# EAGLE library part RHA2132 (library harrison)
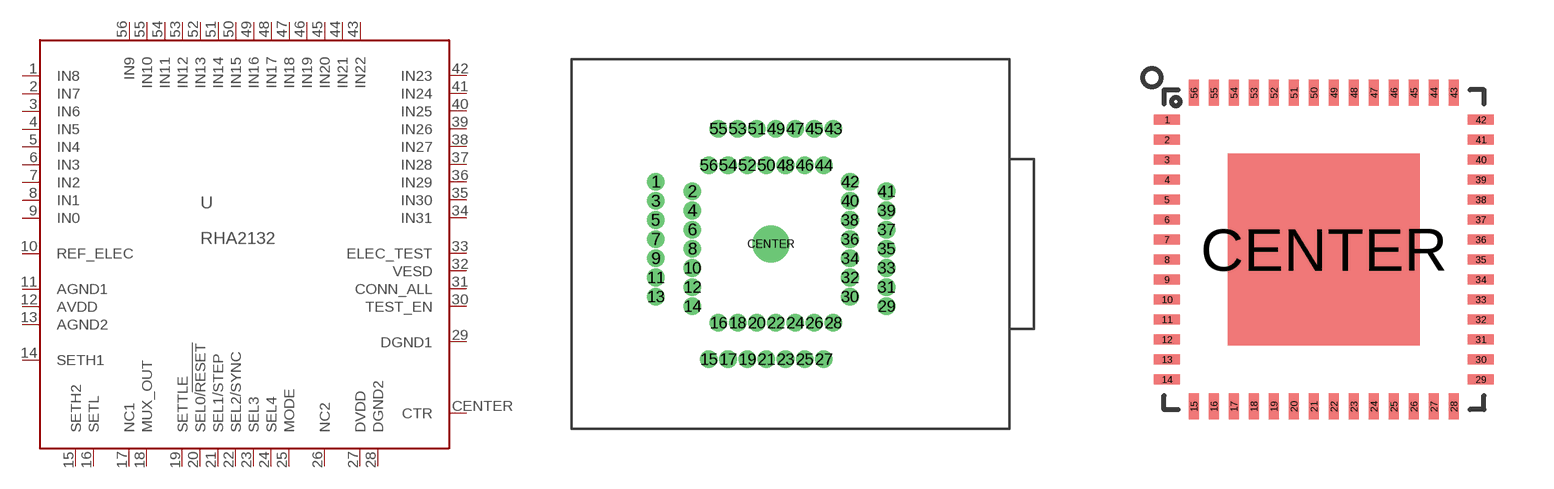
[diagram p55: symbol with the pads of ZIF_QFN56_8_X_8; footprints ZIF_QFN56_8_X_8, QFN56_8_X_8]

Designator prefix U

## RHA2132ZIF  [ZIF_QFN56_8_X_8]
1  IN8  in
2  IN7  in
3  IN6  in
4  IN5  in
5  IN4  in
6  IN3  in
7  IN2  in
8  IN1  in
9  IN0  in
10  REF_ELEC  in
11  AGND1  pwr
12  AVDD  pwr
13  AGND2  pwr
14  SETH1  pas
15  SETH2  pas
16  SETL  pas
17  NC1  nc
18  MUX_OUT  hiz
19  SETTLE  in
20  SEL0/!RESET!  in
21  SEL1/STEP  in
22  SEL2/SYNC
23  SEL3
24  SEL4  in
25  MODE  in
26  NC2  nc
27  DVDD  pwr
28  DGND2  pwr
29  DGND1  pwr
30  TEST_EN  in
31  CONN_ALL  in
32  VESD  pwr
33  ELEC_TEST  in
34  IN31  in
35  IN30  in
36  IN29  in
37  IN28  in
38  IN27  in
39  IN26  in
40  IN25  in
41  IN24  in
42  IN23  in
43  IN22  in
44  IN21  in
45  IN20  in
46  IN19  in
47  IN18  in
48  IN17  in
49  IN16  in
50  IN15  in
51  IN14  in
52  IN13  in
53  IN12  in
54  IN11  in
55  IN10  in
56  IN9  in
CENTER  CTR  pwr

## RHA2132QFN  [QFN56_8_X_8]
Pads as for ZIF_QFN56_8_X_8

## Footprint ZIF_QFN56_8_X_8 (pad centres in mm)
drill 0.41 pad 0.813: 1 -6.02,3.251; 2 -4.115,2.751; 3 -6.02,2.25; 4 -4.115,1.75; 5 -6.02,1.25; 6 -4.115,0.752; 7 -6.02,0.249; 8 -4.115,-0.249; 9 -6.02,-0.749; 10 -4.115,-1.25; 11 -6.02,-1.75; 12 -4.115,-2.25; 13 -6.02,-2.751; 14 -4.115,-3.251; 15 -3.251,-6.02; 16 -2.751,-4.115; 17 -2.25,-6.02; 18 -1.75,-4.115; 19 -1.25,-6.02; 20 -0.752,-4.115; 21 -0.249,-6.02; 22 0.249,-4.115; 23 0.749,-6.02; 24 1.25,-4.115; 25 1.75,-6.02; 26 2.25,-4.115; 27 2.751,-6.02; 28 3.251,-4.115; 29 6.02,-3.251; 30 4.115,-2.751; 31 6.02,-2.25; 32 4.115,-1.75; 33 6.02,-1.25; 34 4.115,-0.752; 35 6.02,-0.249; 36 4.115,0.249; 37 6.02,0.749; 38 4.115,1.25; 39 6.02,1.75; 40 4.115,2.25; 41 6.02,2.751; 42 4.115,3.251; 43 3.251,6.02; 44 2.751,4.115; 45 2.25,6.02; 46 1.75,4.115; 47 1.25,6.02; 48 0.752,4.115; 49 0.249,6.02; 50 -0.249,4.115; 51 -0.749,6.02; 52 -1.25,4.115; 53 -1.75,6.02; 54 -2.25,4.115; 55 -2.751,6.02; 56 -3.251,4.115
drill 1.02 pad 1.93: CENTER 0,0

## Footprint QFN56_8_X_8 (pad centres in mm)
smd 0.65 x 0.25: 1 -3.925,3.25; 2 -3.925,2.75; 3 -3.925,2.25; 4 -3.925,1.75; 5 -3.925,1.25; 6 -3.925,0.75; 7 -3.925,0.25; 8 -3.925,-0.25; 9 -3.925,-0.75; 10 -3.925,-1.25; 11 -3.925,-1.75; 12 -3.925,-2.25; 13 -3.925,-2.75; 14 -3.925,-3.25; 29 3.925,-3.25; 30 3.925,-2.75; 31 3.925,-2.25; 32 3.925,-1.75; 33 3.925,-1.25; 34 3.925,-0.75; 35 3.925,-0.25; 36 3.925,0.25; 37 3.925,0.75; 38 3.925,1.25; 39 3.925,1.75; 40 3.925,2.25; 41 3.925,2.75; 42 3.925,3.25
smd 0.25 x 0.65: 15 -3.25,-3.925; 16 -2.75,-3.925; 17 -2.25,-3.925; 18 -1.75,-3.925; 19 -1.25,-3.925; 20 -0.75,-3.925; 21 -0.25,-3.925; 22 0.25,-3.925; 23 0.75,-3.925; 24 1.25,-3.925; 25 1.75,-3.925; 26 2.25,-3.925; 27 2.75,-3.925; 28 3.25,-3.925; 43 3.25,3.925; 44 2.75,3.925; 45 2.25,3.925; 46 1.75,3.925; 47 1.25,3.925; 48 0.75,3.925; 49 0.25,3.925; 50 -0.25,3.925; 51 -0.75,3.925; 52 -1.25,3.925; 53 -1.75,3.925; 54 -2.25,3.925; 55 -2.75,3.925; 56 -3.25,3.925
smd 4.8 x 4.8: CENTER 0,0